# Altium schematic symbol library TIMicrocontrollers.SchLib: 4 symbols
Pins are listed as number, name and electrical type; pins without a type are passive.

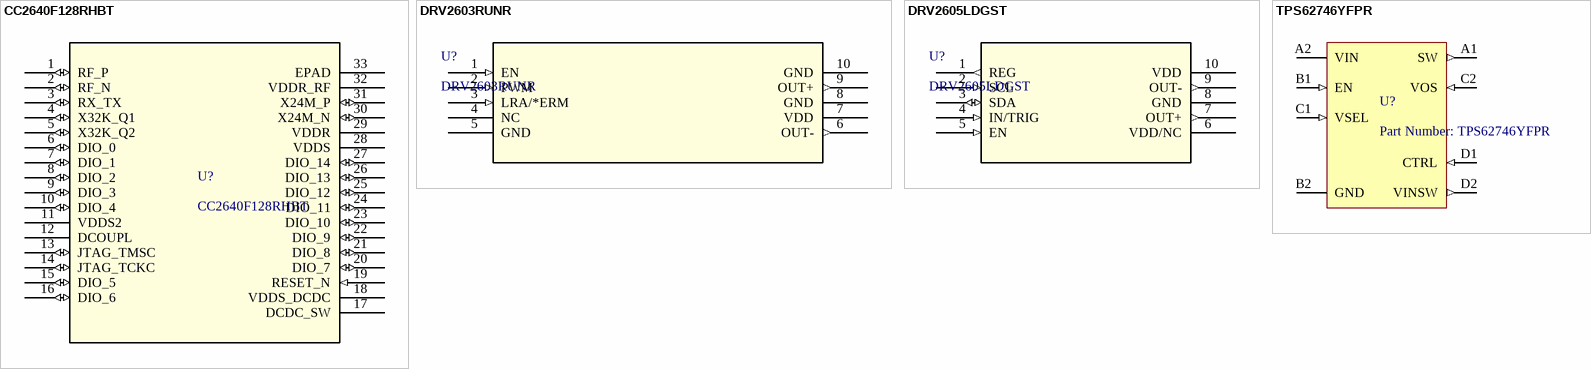
[diagram p0: symbols CC2640F128RHBT to TPS62746YFPR]

## CC2640F128RHBT
designator U?
SimpleLink Wireless MCU; Vendor: Texas Instruments; Built_By: EMA_Jessica; Manufacturer_Part_Number: CC2640F128RHBT; Copyright: Copyright (C) 2018 Accelerated Designs. All rights reserved; RefDes: RefDes; Type: DEV; Value: Value
footprint RHB32_3P45X3P45
pins: 1 RF_P (io), 2 RF_N (io), 3 RX_TX (io), 4 X32K_Q1 (io), 5 X32K_Q2 (io), 6 DIO_0 (io), 7 DIO_1 (io), 8 DIO_2 (io), 9 DIO_3 (io), 10 DIO_4 (io), 11 VDDS2 (power), 12 DCOUPL (power), 13 JTAG_TMSC (io), 14 JTAG_TCKC (io), 15 DIO_5 (io), 16 DIO_6 (io), 17 DCDC_SW (power), 18 VDDS_DCDC (power), 19 RESET_N (in), 20 DIO_7 (io), 21 DIO_8 (io), 22 DIO_9 (io), 23 DIO_10 (io), 24 DIO_11 (io), 25 DIO_12 (io), 26 DIO_13 (io), 27 DIO_14 (io), 28 VDDS (power), 29 VDDR (power), 30 X24M_N (io), 31 X24M_P (io), 32 VDDR_RF (power), 33 EPAD

## DRV2603RUNR
designator U?
Motor Driver Power MOSFET Parallel, PWM 10-QFN (2x2); Vendor: Texas Instruments; Built_By: EMA_UL_Team; Manufacturer_Part_Number: DRV2603RUNR; Copyright: Copyright (C) 2018 Accelerated Designs. All rights reserved; RefDes: RefDes; Type: DEV; Value: Value
footprint RUN10
pins: 1 EN (in), 2 PWM (in), 3 LRA/*ERM (in), 4 NC, 5 GND (power), 6 OUT- (out), 7 VDD (power), 8 GND (power), 9 OUT+ (out), 10 GND (power)

## DRV2605LDGST
designator U?
Motor Driver Power MOSFET I²C 10-VSSOP; Vendor: Texas Instruments; Built_By: EMA_UL_Team; Manufacturer_Part_Number: DRV2605LDGST; Copyright: Copyright (C) 2018 Accelerated Designs. All rights reserved; RefDes: RefDes; Type: DEV; Value: Value
footprint RHB32_3P45X3P45
pins: 1 REG (out), 2 SCL (in), 3 SDA (io), 4 IN/TRIG (in), 5 EN (in), 6 VDD/NC (power), 7 OUT+ (out), 8 GND (power), 9 OUT- (out), 10 VDD (power)

## TPS62746YFPR
designator U?, comment Part Number: TPS62746YFPR
Buck Switching Regulator IC Positive Programmable 1.2V, 1.8V 1 Output 300mA 8-XFBGA, DSBGA
footprint YFP0008AGAC
pins: A1 SW (out), A2 VIN (power), B1 EN (in), B2 GND (power), C1 VSEL (in), C2 VOS (in), D1 CTRL (in), D2 VINSW (out)